# EAGLE library part ESP32-DEVKIT-V1 (library ESP32-DEVKIT-V1)
Dual core, Wi-Fi: 2.4 GHz up to 150 Mbits/s,BLE (Bluetooth Low Energy) and legacy Bluetooth, 32 bits, Up to 240 MHz Check prices <https://pricing.snapeda.com/parts/ESP32-DEVKIT-V1/Do%20it/view-part?ref=eda>
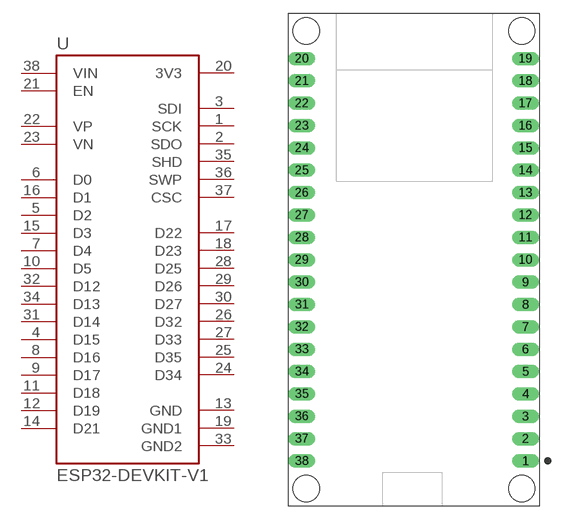
[diagram p0: symbol with the pads of MODULE_ESP32_DEVKIT_V1; footprint MODULE_ESP32_DEVKIT_V1]

Designator prefix U

## ESP32-DEVKIT-V1 (AVAILABILITY: Not in stock; DESCRIPTION: Dual core, Wi-Fi: 2.4 GHz up to 150 Mbits/s,BLE (Bluetooth Low Energy) and legacy Bluetooth, 32 bits, Up to 240 MHz; MF: Do it; MP: ESP32-DEVKIT-V1; PACKAGE: None; PRICE: None)  [MODULE_ESP32_DEVKIT_V1]
1  SCK  out
2  SDO  in
3  SDI  in
4  D15
5  D2
6  D0
7  D4
8  D16
9  D17
10  D5
11  D18
12  D19
13  GND  pwr
14  D21
15  D3
16  D1
17  D22
18  D23
19  GND1  pwr
20  3V3  out
21  EN  in
22  VP
23  VN
24  D34
25  D35
26  D32
27  D33
28  D25
29  D26
30  D27
31  D14
32  D12
33  GND2  pwr
34  D13
35  SHD  in
36  SWP  out
37  CSC  out
38  VIN  in

## Footprint MODULE_ESP32_DEVKIT_V1 (pad centres in mm)
drill 1.016 pad 1.422 long: 1 12.7,-20.32; 2 12.7,-17.78; 3 12.7,-15.24; 4 12.7,-12.7; 5 12.7,-10.16; 6 12.7,-7.62; 7 12.7,-5.08; 8 12.7,-2.54; 9 12.7,0; 10 12.7,2.54; 11 12.7,5.08; 12 12.7,7.62; 13 12.7,10.16; 14 12.7,12.7; 15 12.7,15.24; 16 12.7,17.78; 17 12.7,20.32; 18 12.7,22.86; 19 12.7,25.4; 20 -12.7,25.4; 21 -12.7,22.86; 22 -12.7,20.32; 23 -12.7,17.78; 24 -12.7,15.24; 25 -12.7,12.7; 26 -12.7,10.16; 27 -12.7,7.62; 28 -12.7,5.08; 29 -12.7,2.54; 30 -12.7,0; 31 -12.7,-2.54; 32 -12.7,-5.08; 33 -12.7,-7.62; 34 -12.7,-10.16; 35 -12.7,-12.7; 36 -12.7,-15.24; 37 -12.7,-17.78; 38 -12.7,-20.32
hole 3 at 12.28,28.555
hole 3 at -12.23,28.555
hole 3 at -12.23,-23.475
hole 3 at 12.28,-23.475